# EAGLE library part RP44?* (library relay-custom)
Power PCB Relay RP II/2 Schrack 2 pole 8 A Source: http://www.schrack.com/.. 5844.pdf
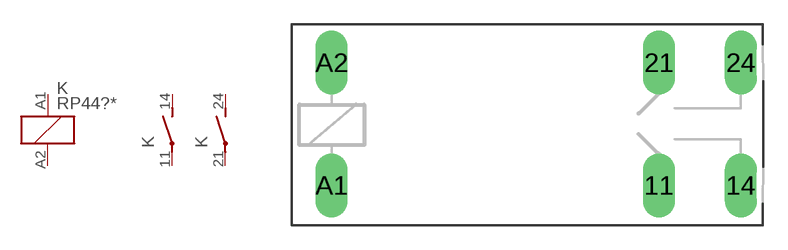
[diagram p135: symbol with the pads of RP440; footprint RP440]

Designator prefix K; gates 1=K 2=S 3=S

## RP440005 (OC_FARNELL: unknown; OC_NEWARK: unknown), RP440006 (OC_FARNELL: unknown; OC_NEWARK: unknown), RP440012 (MF: TYCO ELECTRONICS; MPN: RP440012; OC_FARNELL: unknown; OC_NEWARK: 07H9451), RP440024 (MPN: RP440024; OC_FARNELL: unknown; OC_NEWARK: 48M7816), RP440048 (OC_FARNELL: unknown; OC_NEWARK: unknown), RP440060 (OC_FARNELL: unknown; OC_NEWARK: unknown), RP440110 (OC_FARNELL: unknown; OC_NEWARK: unknown), RP441005 (OC_FARNELL: unknown; OC_NEWARK: unknown), RP441006 (OC_FARNELL: unknown; OC_NEWARK: unknown), RP441012 (MF: TYCO ELECTRONICS; MPN: RP441012; OC_FARNELL: unknown; OC_NEWARK: 09H1465), RP441024 (MPN: RP441024; OC_FARNELL: unknown; OC_NEWARK: 48M7817), RP441048 (OC_FARNELL: unknown; OC_NEWARK: unknown), RP441060 (OC_FARNELL: unknown; OC_NEWARK: unknown), RP441110 (OC_FARNELL: unknown; OC_NEWARK: unknown)  [RP440]
11  2:P  pas
14  2:S  pas
21  3:P  pas
24  3:S  pas
A1  1:1  pas
A2  1:2  pas

## Footprint RP440 (pad centres in mm)
Power PCB Relay RP II/2 SCHRACK 2 pole 8 A Source: http://www.schrack.com/.. 5844.pdf
drill 1.321 long: 11 16.51,-3.81; 14 21.59,-3.81; 21 16.51,3.81; 24 21.59,3.81; A1 -3.81,-3.81; A2 -3.81,3.81